# EAGLE library part TEENSY3_6--ALLPINS (library Teensy_3_6)
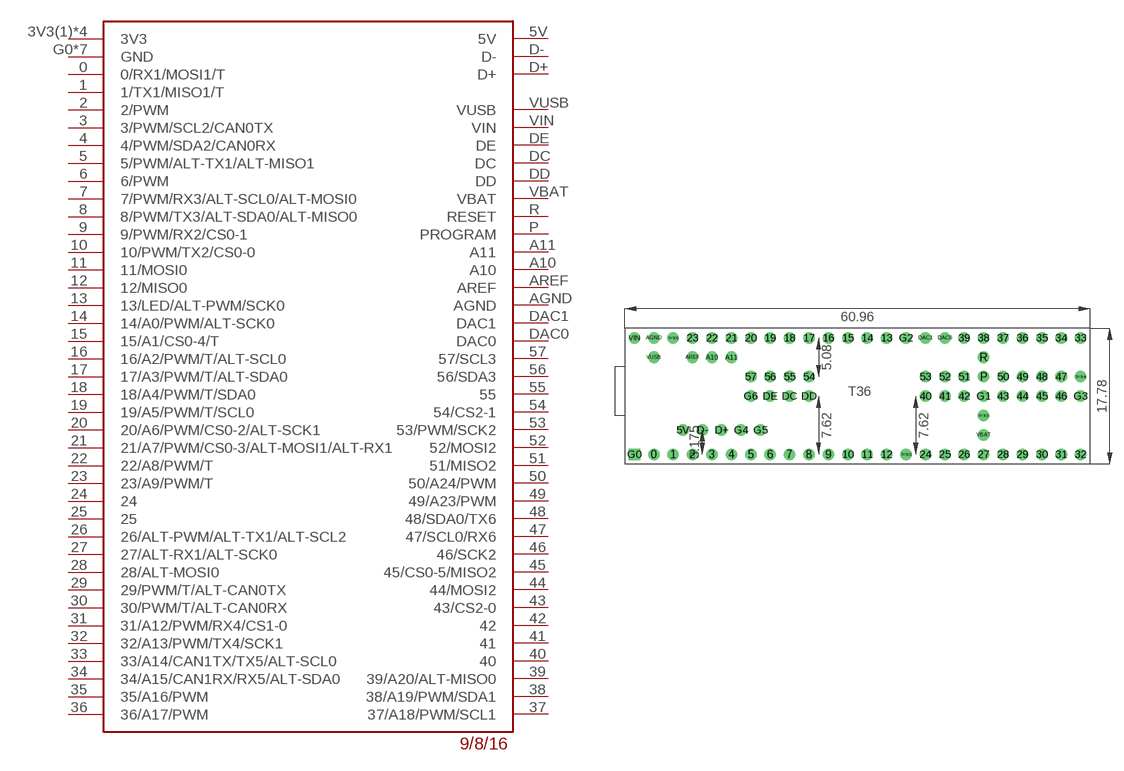
[diagram p0: symbol with the pads of T36; footprint T36]

Designator prefix -

## TEENSY3_6--ALLPINS  [T36]
0  0/RX1/MOSI1/T
1  1/TX1/MISO1/T
2  2/PWM
3  3/PWM/SCL2/CAN0TX
3V3(1)  3V3
3V3(2)  3V3
3V3(3)  3V3
3V3(4)  3V3
4  4/PWM/SDA2/CAN0RX
5  5/PWM/ALT-TX1/ALT-MISO1
5V  5V
6  6/PWM
7  7/PWM/RX3/ALT-SCL0/ALT-MOSI0
8  8/PWM/TX3/ALT-SDA0/ALT-MISO0
9  9/PWM/RX2/CS0-1
10  10/PWM/TX2/CS0-0
11  11/MOSI0
12  12/MISO0
13  13/LED/ALT-PWM/SCK0
14  14/A0/PWM/ALT-SCK0
15  15/A1/CS0-4/T
16  16/A2/PWM/T/ALT-SCL0
17  17/A3/PWM/T/ALT-SDA0
18  18/A4/PWM/T/SDA0
19  19/A5/PWM/T/SCL0
20  20/A6/PWM/CS0-2/ALT-SCK1
21  21/A7/PWM/CS0-3/ALT-MOSI1/ALT-RX1
22  22/A8/PWM/T
23  23/A9/PWM/T
24  24
25  25
26  26/ALT-PWM/ALT-TX1/ALT-SCL2
27  27/ALT-RX1/ALT-SCK0
28  28/ALT-MOSI0
29  29/PWM/T/ALT-CAN0TX
30  30/PWM/T/ALT-CAN0RX
31  31/A12/PWM/RX4/CS1-0
32  32/A13/PWM/TX4/SCK1
33  33/A14/CAN1TX/TX5/ALT-SCL0
34  34/A15/CAN1RX/RX5/ALT-SDA0
35  35/A16/PWM
36  36/A17/PWM
37  37/A18/PWM/SCL1
38  38/A19/PWM/SDA1
39  39/A20/ALT-MISO0
40  40
41  41
42  42
43  43/CS2-0
44  44/MOSI2
45  45/CS0-5/MISO2
46  46/SCK2
47  47/SCL0/RX6
48  48/SDA0/TX6
49  49/A23/PWM
50  50/A24/PWM
51  51/MISO2
52  52/MOSI2
53  53/PWM/SCK2
54  54/CS2-1
55  55
56  56/SDA3
57  57/SCL3
A10  A10
A11  A11
AGND  AGND
AREF  AREF
D+  D+
D-  D-
DAC0  DAC0
DAC1  DAC1
DC  DC
DD  DD
DE  DE
G0  GND
G1  GND
G2  GND
G3  GND
G4  GND
G5  GND
G6  GND
P  PROGRAM
R  RESET
VBAT  VBAT
VIN  VIN
VUSB  VUSB

## Footprint T36 (pad centres in mm)
drill 1: 0 -15.24,-5.08; 1 -12.7,-5.08; 2 -10.16,-5.08; 3 -7.62,-5.08; 3V3(1) 17.78,-5.08; 3V3(2) 27.94,0; 3V3(3) -12.7,10.16; 3V3(4) 40.64,5.08; 4 -5.08,-5.08; 5 -2.54,-5.08; 5V -11.43,-1.905; 6 0,-5.08; 7 2.54,-5.08; 8 5.08,-5.08; 9 7.62,-5.08; 10 10.16,-5.08; 11 12.7,-5.08; 12 15.24,-5.08; 13 15.24,10.16; 14 12.7,10.16; 15 10.16,10.16; 16 7.62,10.16; 17 5.08,10.16; 18 2.54,10.16; 19 0,10.16; 20 -2.54,10.16; 21 -5.08,10.16; 22 -7.62,10.16; 23 -10.16,10.16; 24 20.32,-5.08; 25 22.86,-5.08; 26 25.4,-5.08; 27 27.94,-5.08; 28 30.48,-5.08; 29 33.02,-5.08; 30 35.56,-5.08; 31 38.1,-5.08; 32 40.64,-5.08; 33 40.64,10.16; 34 38.1,10.16; 35 35.56,10.16; 36 33.02,10.16; 37 30.48,10.16; 38 27.94,10.16; 39 25.4,10.16; 40 20.32,2.54; 41 22.86,2.54; 42 25.4,2.54; 43 30.48,2.54; 44 33.02,2.54; 45 35.56,2.54; 46 38.1,2.54; 47 38.1,5.08; 48 35.56,5.08; 49 33.02,5.08; 50 30.48,5.08; 51 25.4,5.08; 52 22.86,5.08; 53 20.32,5.08; 54 5.08,5.08; 55 2.54,5.08; 56 0,5.08; 57 -2.54,5.08; A10 -7.62,7.62; A11 -5.08,7.62; AGND -15.24,10.16; AREF -10.16,7.62; D+ -6.35,-1.905; D- -8.89,-1.905; DAC0 22.86,10.16; DAC1 20.32,10.16; DC 2.54,2.54; DD 5.08,2.54; DE 0,2.54; G1 27.94,2.54; G2 17.78,10.16; G3 40.64,2.54; G4 -3.81,-1.905; G5 -1.27,-1.905; G6 -2.54,2.54; P 27.94,5.08; R 27.94,7.62; VBAT 27.94,-2.54; VIN -17.78,10.16; VUSB -15.24,7.62
drill 1 square: G0 -17.78,-5.08